# Altium footprint library alexsb.PCBLIB: 444 footprints (part 22 of 28)
Each footprint in its own frame and in the unit in brackets; x right, y up, seen from the top. Pads: shape width x height; smd on the part's side, far side on the other; paste and mask are expansions set on the pad; w line width, h text height; cw(c..) or ccw(c..) is an arc to the next point about the centre after c.
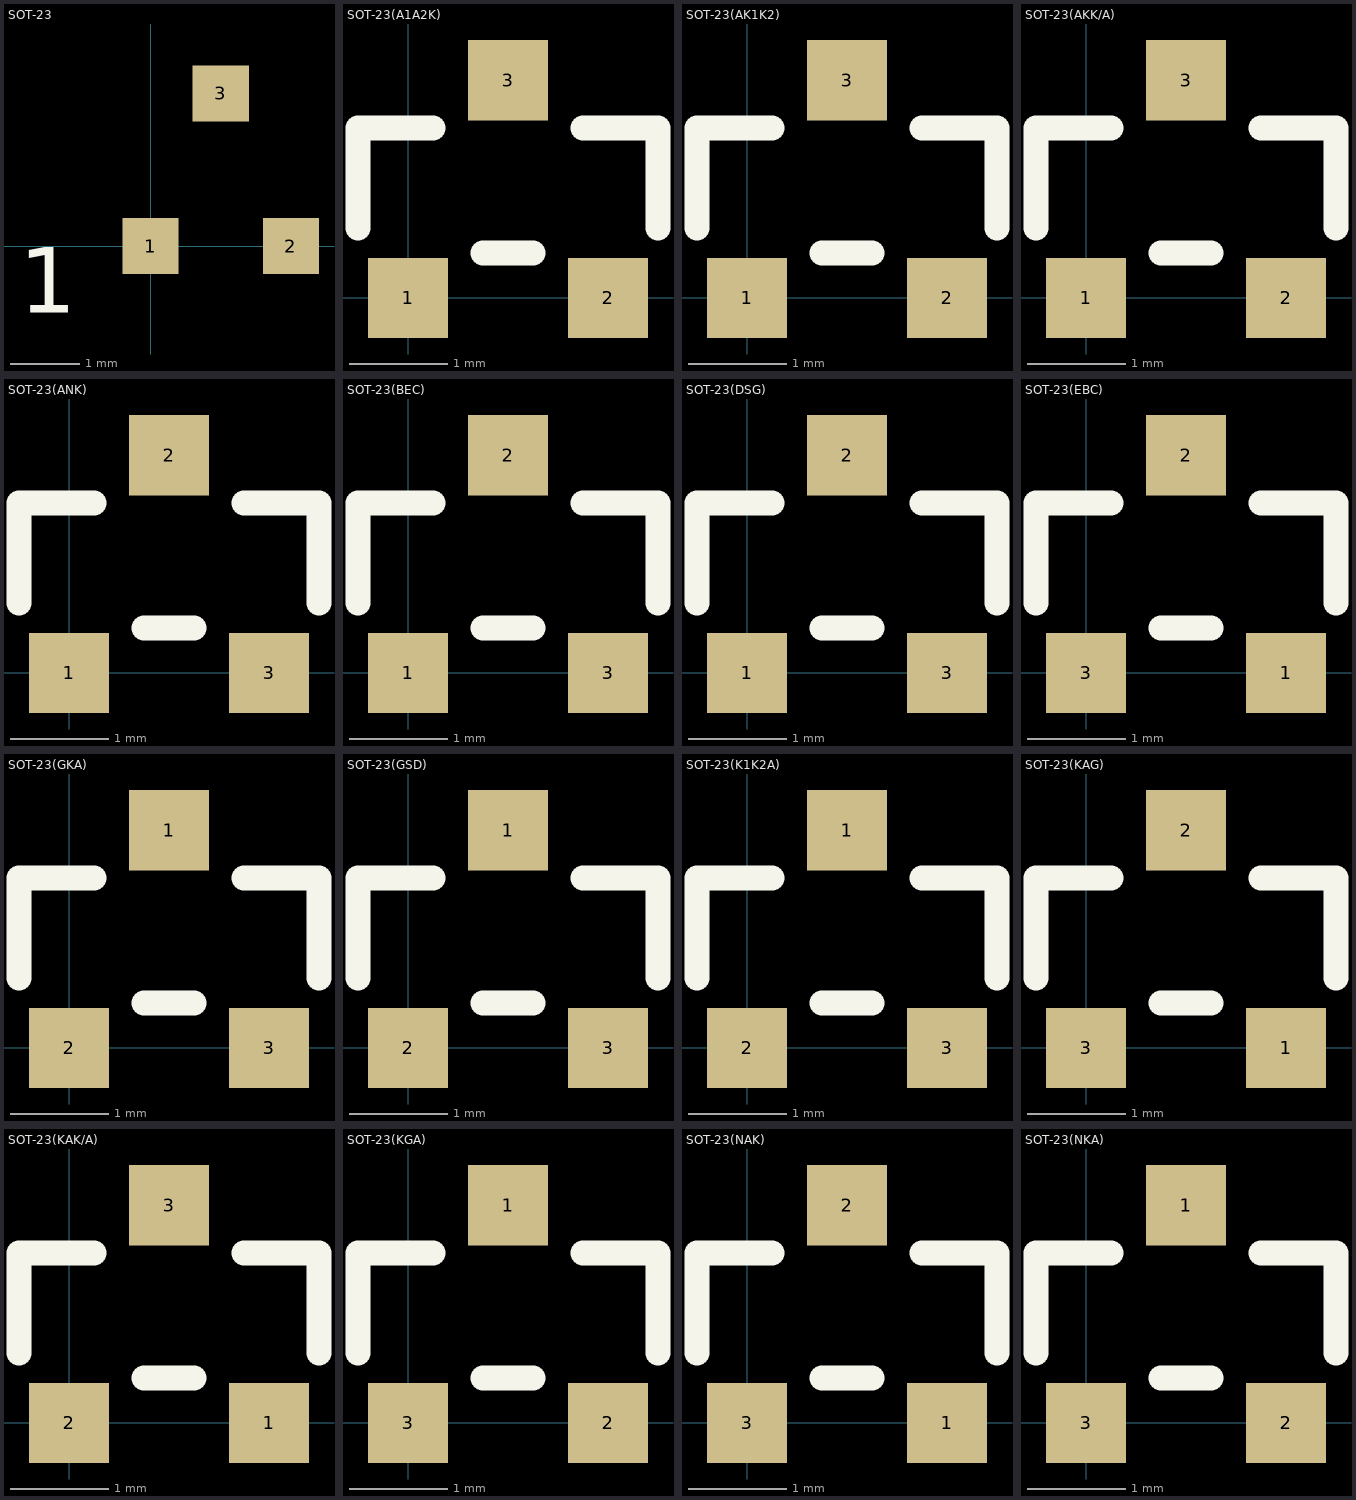
[diagram p21: the footprints below, top view; thin cyan lines are the x and y axes]

## SOT-23 [mil]
pads (3):
  rect 32x32 smd: 1(0,0) 2(80,0) 3(40,87)
Top Overlay:
  text "1" at -75,-38 h37.5

## SOT-23(A1A2K) [mil]
pads (3):
  rect 32x32 smd: 1(0,0) 2(80,0) 3(40,87)
Top Overlay:
  lines w10: -20,28 -20,68 10,68 ; 30,18 50,18 ; 70,68 100,68 100,28

## SOT-23(AK1K2) [mil]
pads (3):
  rect 32x32 smd: 1(0,0) 2(80,0) 3(40,87)
Top Overlay:
  lines w10: -20,28 -20,68 10,68 ; 30,18 50,18 ; 70,68 100,68 100,28

## SOT-23(AKK/A) [mil]
pads (3):
  rect 32x32 smd: 1(0,0) 2(80,0) 3(40,87)
Top Overlay:
  lines w10: -20,28 -20,68 10,68 ; 30,18 50,18 ; 70,68 100,68 100,28

## SOT-23(ANK) [mil]
pads (3):
  rect 32x32 smd: 1(0,0) 2(40,87) 3(80,0)
Top Overlay:
  lines w10: -20,28 -20,68 10,68 ; 30,18 50,18 ; 70,68 100,68 100,28

## SOT-23(BEC) [mil]
pads (3):
  rect 32x32 smd: 1(0,0) 2(40,87) 3(80,0)
Top Overlay:
  lines w10: -20,28 -20,68 10,68 ; 30,18 50,18 ; 70,68 100,68 100,28

## SOT-23(DSG) [mil]
pads (3):
  rect 32x32 smd: 1(0,0) 2(40,87) 3(80,0)
Top Overlay:
  lines w10: -20,28 -20,68 10,68 ; 30,18 50,18 ; 70,68 100,68 100,28

## SOT-23(EBC) [mil]
pads (3):
  rect 32x32 smd: 1(80,0) 2(40,87) 3(0,0)
Top Overlay:
  lines w10: -20,28 -20,68 10,68 ; 30,18 50,18 ; 70,68 100,68 100,28

## SOT-23(GKA) [mil]
pads (3):
  rect 32x32 smd: 1(40,87) 2(0,0) 3(80,0)
Top Overlay:
  lines w10: -20,28 -20,68 10,68 ; 30,18 50,18 ; 70,68 100,68 100,28

## SOT-23(GSD) [mil]
pads (3):
  rect 32x32 smd: 1(40,87) 2(0,0) 3(80,0)
Top Overlay:
  lines w10: -20,28 -20,68 10,68 ; 30,18 50,18 ; 70,68 100,68 100,28

## SOT-23(K1K2A) [mil]
pads (3):
  rect 32x32 smd: 1(40,87) 2(0,0) 3(80,0)
Top Overlay:
  lines w10: -20,28 -20,68 10,68 ; 30,18 50,18 ; 70,68 100,68 100,28

## SOT-23(KAG) [mil]
pads (3):
  rect 32x32 smd: 1(80,0) 2(40,87) 3(0,0)
Top Overlay:
  lines w10: -20,28 -20,68 10,68 ; 30,18 50,18 ; 70,68 100,68 100,28

## SOT-23(KAK/A) [mil]
pads (3):
  rect 32x32 smd: 1(80,0) 2(0,0) 3(40,87)
Top Overlay:
  lines w10: -20,28 -20,68 10,68 ; 30,18 50,18 ; 70,68 100,68 100,28

## SOT-23(KGA) [mil]
pads (3):
  rect 32x32 smd: 1(40,87) 2(80,0) 3(0,0)
Top Overlay:
  lines w10: -20,28 -20,68 10,68 ; 30,18 50,18 ; 70,68 100,68 100,28

## SOT-23(NAK) [mil]
pads (3):
  rect 32x32 smd: 1(80,0) 2(40,87) 3(0,0)
Top Overlay:
  lines w10: -20,28 -20,68 10,68 ; 30,18 50,18 ; 70,68 100,68 100,28

## SOT-23(NKA) [mil]
pads (3):
  rect 32x32 smd: 1(40,87) 2(80,0) 3(0,0)
Top Overlay:
  lines w10: -20,28 -20,68 10,68 ; 30,18 50,18 ; 70,68 100,68 100,28